# Altium footprint library Gravix-IC.PcbLib: 10 footprints
Each footprint in its own frame and in the unit in brackets; x right, y up, seen from the top. Pads: shape width x height; smd on the part's side, far side on the other; paste and mask are expansions set on the pad; w line width, h text height; cw(c..) or ccw(c..) is an arc to the next point about the centre after c.
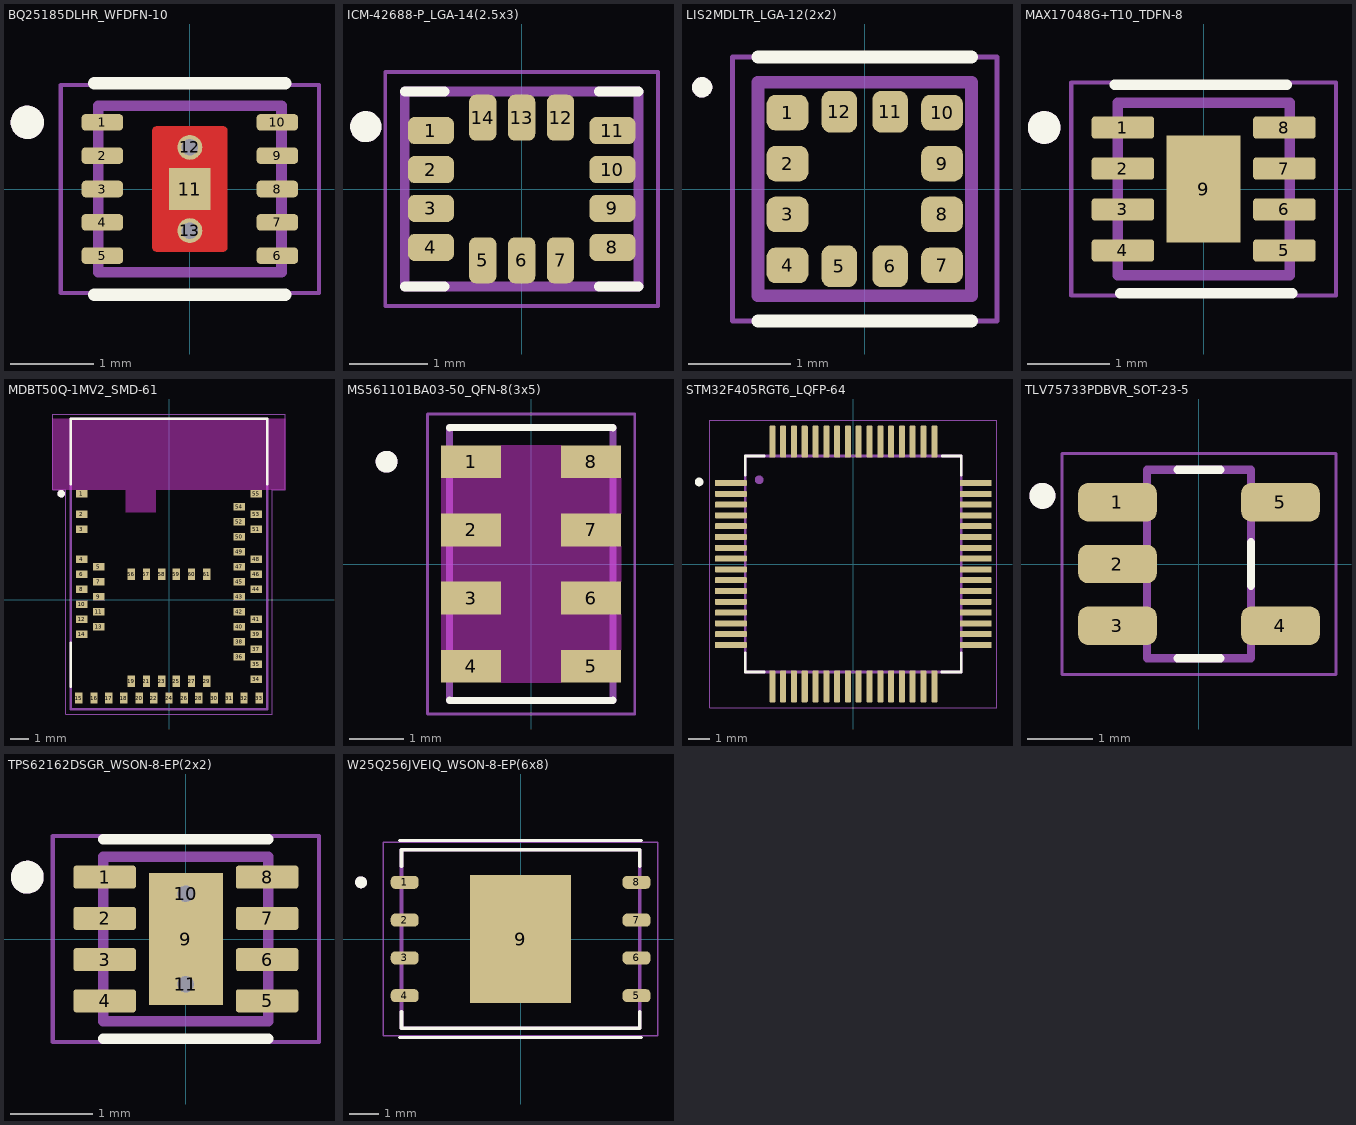
[diagram p0: the footprints below, top view; thin cyan lines are the x and y axes]

## BQ25185DLHR_WFDFN-10 [mm]
pads (13):
  rrect52% 0.5x0.2 smd paste+0 mask+0: 1(-1.05,0.8) 2(-1.05,0.4) 3(-1.05,0) 4(-1.05,-0.4) 5(-1.05,-0.8) 6(1.05,-0.8) 7(1.05,-0.4) 8(1.05,0) 9(1.05,0.4) 10(1.05,0.8)
  rect 0.5x0.5 smd paste-1 mask+0: 11(0,0)
  round 0.3 hole 0.2 mask+0: 12(0,0.5) 13(0,-0.5)
Top Layer:
  region: 0.408,0.749 0.41,0.749 0.413,0.748 0.415,0.748 0.418,0.747 0.42,0.746 0.423,0.745 0.425,0.743 0.427,0.742 0.429,0.74 0.431,0.739 0.433,0.737 0.435,0.735 0.437,0.733 0.439,0.731 0.44,0.729 0.442,0.727 0.443,0.725 0.445,0.723 0.446,0.72 0.447,0.718 0.448,0.715 0.448,0.713 0.449,0.71 0.449,0.708 0.45,0.705 0.45,0.703 0.45,0.7 0.45,-0.7 0.45,-0.703 0.45,-0.705 0.449,-0.708 0.449,-0.71 0.448,-0.713 0.448,-0.715 0.447,-0.718 0.446,-0.72 0.445,-0.723 0.443,-0.725 0.442,-0.727 0.44,-0.729 0.439,-0.731 0.437,-0.733 0.435,-0.735 0.433,-0.737 0.431,-0.739 0.429,-0.74 0.427,-0.742 0.425,-0.743 0.423,-0.745 0.42,-0.746 0.418,-0.747 0.415,-0.748 0.413,-0.748 0.41,-0.749 0.408,-0.749 0.405,-0.75 -0.405,-0.75 -0.408,-0.749 -0.41,-0.749 -0.413,-0.748 -0.415,-0.748 -0.418,-0.747 -0.42,-0.746 -0.423,-0.745 -0.425,-0.743 -0.427,-0.742 -0.429,-0.74 -0.431,-0.739 -0.433,-0.737 -0.435,-0.735 -0.437,-0.733 -0.439,-0.731 -0.44,-0.729 -0.442,-0.727 -0.443,-0.725 -0.445,-0.723 -0.446,-0.72 -0.447,-0.718 -0.448,-0.715 -0.448,-0.713 -0.449,-0.71 -0.449,-0.708 -0.45,-0.705 -0.45,-0.703 -0.45,-0.7 -0.45,0.7 -0.45,0.703 -0.45,0.705 -0.449,0.708 -0.449,0.71 -0.448,0.713 -0.448,0.715 -0.447,0.718 -0.446,0.72 -0.445,0.723 -0.443,0.725 -0.442,0.727 -0.44,0.729 -0.439,0.731 -0.437,0.733 -0.435,0.735 -0.433,0.737 -0.431,0.739 -0.429,0.74 -0.427,0.742 -0.425,0.743 -0.423,0.745 -0.42,0.746 -0.418,0.747 -0.415,0.748 -0.413,0.748 -0.41,0.749 -0.408,0.749 -0.405,0.75 0.405,0.75
Top Overlay:
  circle w0.2: c-1.95,0.8 r0.1
  lines w0.152: -1.143,-1.27 1.143,-1.27 ; -1.143,1.27 1.143,1.27
Top Paste:
  region: 0.383,0.689 0.385,0.689 0.388,0.688 0.39,0.688 0.393,0.687 0.395,0.686 0.398,0.685 0.4,0.683 0.402,0.682 0.404,0.68 0.406,0.679 0.408,0.677 0.41,0.675 0.412,0.673 0.414,0.671 0.415,0.669 0.417,0.667 0.418,0.665 0.42,0.663 0.421,0.66 0.422,0.658 0.423,0.655 0.423,0.653 0.424,0.65 0.424,0.648 0.425,0.645 0.425,0.643 0.425,0.64 0.425,-0.64 0.425,-0.643 0.425,-0.645 0.424,-0.648 0.424,-0.65 0.423,-0.653 0.423,-0.655 0.422,-0.658 0.421,-0.66 0.42,-0.663 0.418,-0.665 0.417,-0.667 0.415,-0.669 0.414,-0.671 0.412,-0.673 0.41,-0.675 0.408,-0.677 0.406,-0.679 0.404,-0.68 0.402,-0.682 0.4,-0.683 0.398,-0.685 0.395,-0.686 0.393,-0.687 0.39,-0.688 0.388,-0.688 0.385,-0.689 0.383,-0.689 0.38,-0.69 -0.38,-0.69 -0.383,-0.689 -0.385,-0.689 -0.388,-0.688 -0.39,-0.688 -0.393,-0.687 -0.395,-0.686 -0.398,-0.685 -0.4,-0.683 -0.402,-0.682 -0.404,-0.68 -0.406,-0.679 -0.408,-0.677 -0.41,-0.675 -0.412,-0.673 -0.414,-0.671 -0.415,-0.669 -0.417,-0.667 -0.418,-0.665 -0.42,-0.663 -0.421,-0.66 -0.422,-0.658 -0.423,-0.655 -0.423,-0.653 -0.424,-0.65 -0.424,-0.648 -0.425,-0.645 -0.425,-0.643 -0.425,-0.64 -0.425,0.64 -0.425,0.643 -0.425,0.645 -0.424,0.648 -0.424,0.65 -0.423,0.653 -0.423,0.655 -0.422,0.658 -0.421,0.66 -0.42,0.663 -0.418,0.665 -0.417,0.667 -0.415,0.669 -0.414,0.671 -0.412,0.673 -0.41,0.675 -0.408,0.677 -0.406,0.679 -0.404,0.68 -0.402,0.682 -0.4,0.683 -0.398,0.685 -0.395,0.686 -0.393,0.687 -0.39,0.688 -0.388,0.688 -0.385,0.689 -0.383,0.689 -0.38,0.69 0.38,0.69
Top Solder:
  drawing of 11 lines, arcs and shapes, not listed
Mechanical 13:
  circle w0.2: c-1.95,0.8 r0.1
  lines w0.127: -1.1,-1 -1.1,1 1.1,1 1.1,-1 -1.1,-1
Mechanical 15:
  lines w0.05: -1.55,-1.25 1.55,-1.25 1.55,1.25 -1.55,1.25 -1.55,-1.25
3D body "step_temp.STEP": height 0.8, standoff 0, extent -1.1,-1 1.1,1

## ICM-42688-P_LGA-14(2.5x3) [mm]
pads (14):
  rrect50% 0.59x0.35 smd mask+0: 1(-1.165,0.75) 2(-1.165,0.25) 3(-1.165,-0.25) 4(-1.165,-0.75) 8(1.165,-0.75) 9(1.165,-0.25) 10(1.165,0.25) 11(1.165,0.75)
  rrect50% 0.35x0.59 smd mask+0: 5(-0.5,-0.915) 6(0,-0.915) 7(0.5,-0.915) 12(0.5,0.915) 13(0,0.915) 14(-0.5,0.915)
Top Overlay:
  circle w0.2: c-2,0.8 r0.1
  lines w0.127: -1.5,-1.25 -0.99,-1.25 ; -1.5,1.25 -0.99,1.25 ; 0.99,-1.25 1.5,-1.25 ; 0.99,1.25 1.5,1.25
Top Solder:
  drawing of 14 lines, arcs and shapes, not listed
Mechanical 13:
  circle w0.2: c-2,0.8 r0.1
  lines w0.127: -1.5,-1.25 1.5,-1.25 1.5,1.25 -1.5,1.25 -1.5,-1.25
Mechanical 15:
  lines w0.05: -1.75,-1.5 1.75,-1.5 1.75,1.5 -1.75,1.5 -1.75,-1.5
3D body "ICM-42688-P--3DModel-STEP-1.STEP": height 0.97, standoff 0, extent -1.524,-1.23 1.476,1.27

## LIS2MDLTR_LGA-12(2x2) [mm]
pads (12):
  rrect50% 0.41x0.35 smd: 1(-0.76,0.75) 2(-0.76,0.25) 3(-0.76,-0.25) 4(-0.76,-0.75) 7(0.76,-0.75) 8(0.76,-0.25) 9(0.76,0.25) 10(0.76,0.75)
  rrect50% 0.35x0.41 smd: 5(-0.25,-0.76) 6(0.25,-0.76) 11(0.25,0.76) 12(-0.25,0.76)
Top Overlay:
  circle w0.1: c-1.6,1 r0.05
  lines w0.127: -1.05,-1.3 1.05,-1.3 ; -1.05,1.3 1.05,1.3
Mechanical 13:
  circle w0.1: c-1.6,1 r0.05
  lines w0.127: -1.05,-1.05 -1.05,1.05 1.05,1.05 1.05,-1.05 -1.05,-1.05
Mechanical 15:
  lines w0.05: -1.3,-1.3 1.3,-1.3 1.3,1.3 -1.3,1.3 -1.3,-1.3
3D body "LIS2MDLTR.STEP": height 0.7, standoff 0, extent -1,-1 1,1

## MAX17048G+T10_TDFN-8 [mm]
pads (9):
  rrect25% 0.76x0.27 smd: 1(-0.985,0.75) 2(-0.985,0.25) 3(-0.985,-0.25) 4(-0.985,-0.75) 5(0.985,-0.75) 6(0.985,-0.25) 7(0.985,0.25) 8(0.985,0.75)
  rect 0.9x1.3 smd paste-2: 9(0,0)
Top Overlay:
  circle w0.2: c-1.945,0.75 r0.1
  lines w0.127: -1.084,1.27 1.016,1.27 ; -1.016,-1.27 1.084,-1.27
Top Paste:
  region: 0.28,-0.41 -0.28,-0.41 -0.28,0.41 0.28,0.41
Mechanical 13:
  circle w0.2: c-1.945,0.75 r0.1
  lines w0.127: -1.05,-1.05 -1.05,1.05 1.05,1.05 1.05,-1.05 -1.05,-1.05
Mechanical 15:
  lines w0.05: -1.615,-1.3 -1.615,1.3 1.615,1.3 1.615,-1.3 -1.615,-1.3
3D body "step_temp.STEP": height 0.8, standoff 0, extent -1,-1 1,1

## MDBT50Q-1MV2_SMD-61 [mm]
pads (61):
  rect 0.6x0.4 smd: 1(-4.65,5.655) 2(-4.65,4.555) 3(-4.65,3.755) 4(-4.65,2.155) 5(-3.75,1.755) 6(-4.65,1.355) 7(-3.75,0.955) 8(-4.65,0.555) 9(-3.75,0.155) 10(-4.65,-0.245) 11(-3.75,-0.645) 12(-4.65,-1.045) 13(-3.75,-1.445) 14(-4.65,-1.845) 34(4.65,-4.245) 35(4.65,-3.445) 36(3.75,-3.045) 37(4.65,-2.645) 38(3.75,-2.245) 39(4.65,-1.845) 40(3.75,-1.445) 41(4.65,-1.045) 42(3.75,-0.645) 43(3.75,0.155) 44(4.65,0.555) 45(3.75,0.955) 46(4.65,1.355) 47(3.75,1.755) 48(4.65,2.155) 49(3.75,2.555) 50(3.75,3.355) 51(4.65,3.755) 52(3.75,4.155) 53(4.65,4.555) 54(3.75,4.955) 55(4.65,5.655)
  rect 0.4x0.6 smd: 15(-4.8,-5.245) 16(-4,-5.245) 17(-3.2,-5.245) 18(-2.4,-5.245) 19(-2,-4.345) 20(-1.6,-5.245) 21(-1.2,-4.345) 22(-0.8,-5.245) 23(-0.4,-4.345) 24(0,-5.245) 25(0.4,-4.345) 26(0.8,-5.245) 27(1.2,-4.345) 28(1.6,-5.245) 29(2,-4.345) 30(2.4,-5.245) 31(3.2,-5.245) 32(4,-5.245) 33(4.8,-5.245) 56(-2,1.355) 57(-1.2,1.355) 58(-0.4,1.355) 59(0.4,1.355) 60(1.2,1.355) 61(2,1.355)
Top Overlay:
  circle w0.2: c-5.75,5.655 r0.1
  lines w0.127: -5.25,-4.645 -5.25,-2.295 ; -5.25,6.155 -5.25,9.655 5.25,9.655 5.25,6.155
Keep-Out Layer:
  region: -0.7,4.655 -2.3,4.655 -2.3,5.855 -0.7,5.855
  region: 6.2,5.855 -6.2,5.855 -6.2,9.655 6.2,9.655
  region: -0.7,4.655 -2.3,4.655 -2.3,5.855 -0.7,5.855
  region: 6.2,5.855 -6.2,5.855 -6.2,9.655 6.2,9.655
Mechanical 13:
  circle w0.2: c-5.75,5.655 r0.1
  lines w0.127: -5.25,-5.845 5.25,-5.845 5.25,9.655 -5.25,9.655 -5.25,-5.845
Mechanical 15:
  lines w0.05: -6.2,5.855 -5.5,5.855 -5.5,-6.095 5.5,-6.095 5.5,5.855 6.2,5.855 6.2,9.905 -6.2,9.905 -6.2,5.855
3D body "step_temp.STEP": height 2.07, standoff 0.01, extent -5.25,-5.845 5.25,9.655

## MS561101BA03-50_QFN-8(3x5) [mm]
pads (8):
  rect 1.1x0.6 smd: 1(-1.1,1.875) 2(-1.1,0.625) 3(-1.1,-0.625) 4(-1.1,-1.875) 5(1.1,-1.875) 6(1.1,-0.625) 7(1.1,0.625) 8(1.1,1.875)
Top Overlay:
  circle w0.2: c-2.65,1.875 r0.1
  lines w0.127: -1.5,-2.495 -1.5,-2.5 1.5,-2.5 1.5,-2.495 ; -1.5,2.495 -1.5,2.5 1.5,2.5 1.5,2.495
Keep-Out Layer:
  region: 0.55,1.575 1.65,1.575 1.65,0.925 0.55,0.925 0.55,0.325 1.65,0.325 1.65,-0.325 0.55,-0.325 0.55,-0.925 1.65,-0.925 1.65,-1.575 0.55,-1.575 0.55,-2.175 -0.55,-2.175 -0.55,-1.575 -1.65,-1.575 -1.65,-0.925 -0.55,-0.925 -0.55,-0.325 -1.65,-0.325 -1.65,0.325 -0.55,0.325 -0.55,0.925 -1.65,0.925 -1.65,1.575 -0.55,1.575 -0.55,2.175 0.55,2.175
Mechanical 13:
  circle w0.2: c-2.65,1.875 r0.1
  lines w0.127: -1.5,-2.5 1.5,-2.5 1.5,2.5 -1.5,2.5 -1.5,-2.5
Mechanical 15:
  lines w0.05: -1.9,-2.75 1.9,-2.75 1.9,2.75 -1.9,2.75 -1.9,-2.75
3D body "step_temp.STEP": height 1, standoff 0, extent -1.5,-2.5 1.5,2.5

## STM32F405RGT6_LQFP-64 [mm]
pads (64):
  rrect25% 1.47x0.28 smd: 1(-5.67,3.75) 2(-5.67,3.25) 3(-5.67,2.75) 4(-5.67,2.25) 5(-5.67,1.75) 6(-5.67,1.25) 7(-5.67,0.75) 8(-5.67,0.25) 9(-5.67,-0.25) 10(-5.67,-0.75) 11(-5.67,-1.25) 12(-5.67,-1.75) 13(-5.67,-2.25) 14(-5.67,-2.75) 15(-5.67,-3.25) 16(-5.67,-3.75) 33(5.67,-3.75) 34(5.67,-3.25) 35(5.67,-2.75) 36(5.67,-2.25) 37(5.67,-1.75) 38(5.67,-1.25) 39(5.67,-0.75) 40(5.67,-0.25) 41(5.67,0.25) 42(5.67,0.75) 43(5.67,1.25) 44(5.67,1.75) 45(5.67,2.25) 46(5.67,2.75) 47(5.67,3.25) 48(5.67,3.75)
  rrect25% 0.28x1.47 smd: 17(-3.75,-5.67) 18(-3.25,-5.67) 19(-2.75,-5.67) 20(-2.25,-5.67) 21(-1.75,-5.67) 22(-1.25,-5.67) 23(-0.75,-5.67) 24(-0.25,-5.67) 25(0.25,-5.67) 26(0.75,-5.67) 27(1.25,-5.67) 28(1.75,-5.67) 29(2.25,-5.67) 30(2.75,-5.67) 31(3.25,-5.67) 32(3.75,-5.67) 49(3.75,5.67) 50(3.25,5.67) 51(2.75,5.67) 52(2.25,5.67) 53(1.75,5.67) 54(1.25,5.67) 55(0.75,5.67) 56(0.25,5.67) 57(-0.25,5.67) 58(-0.75,5.67) 59(-1.25,5.67) 60(-1.75,5.67) 61(-2.25,5.67) 62(-2.75,5.67) 63(-3.25,5.67) 64(-3.75,5.67)
Top Overlay:
  circle w0.2: c-7.14,3.8 r0.1
  lines w0.127: -5,-4.125 -5,-5 -4.125,-5 ; -5,4.125 -5,5 -4.125,5 ; 4.092,-5 5,-5 5,-4.125 ; 4.125,5 5,5 5,4.125
Mechanical 13:
  circle w0.2: c-4.36,3.9 r0.1
  lines w0.127: -5,-5 5,-5 5,5 -5,5 -5,-5
Mechanical 15:
  lines w0.05: -6.655,-6.655 6.655,-6.655 6.655,6.655 -6.655,6.655 -6.655,-6.655
3D body "step_temp.STEP": height 1.6, standoff 0, extent -6,-6 6,6

## TLV75733PDBVR_SOT-23-5 [mm]
pads (5):
  rrect50% 1.21x0.59 smd: 1(-1.255,0.95) 2(-1.255,0) 3(-1.255,-0.95) 4(1.255,-0.95) 5(1.255,0.95)
Top Overlay:
  circle w0.2: c-2.41,1.05 r0.1
  lines w0.127: -0.33,-1.45 0.33,-1.45 ; -0.33,1.45 0.33,1.45 ; 0.8,-0.335 0.8,0.335
Mechanical 13:
  circle w0.2: c-2.41,1.05 r0.1
  lines w0.127: -0.8,-1.45 -0.8,1.45 0.8,1.45 0.8,-1.45 -0.8,-1.45
Mechanical 15:
  lines w0.05: -2.11,-1.7 2.11,-1.7 2.11,1.7 -2.11,1.7 -2.11,-1.7
3D body "step_temp.STEP": height 1.45, standoff 0, extent -1.4,-1.45 1.4,1.45

## TPS62162DSGR_WSON-8-EP(2x2) [mm]
pads (11):
  rrect25% 0.76x0.28 smd: 1(-0.985,0.75) 2(-0.985,0.25) 3(-0.985,-0.25) 4(-0.985,-0.75) 5(0.985,-0.75) 6(0.985,-0.25) 7(0.985,0.25) 8(0.985,0.75)
  rect 0.9x1.6 smd paste-2: 9(0,0)
  round 0.4 hole 0.2 mask+0: 10(0,0.55) 11(0,-0.55)
Top Overlay:
  circle w0.2: c-1.925,0.75 r0.1
  lines w0.127: -1,-1.21 1,-1.21 ; -1,1.21 1,1.21
Top Paste:
  region: 0.284,-0.506 -0.284,-0.506 -0.284,0.506 0.284,0.506
Mechanical 13:
  circle w0.2: c-1.925,0.75 r0.1
  lines w0.127: -1,-1 -1,1 1,1 1,-1 -1,-1
Mechanical 15:
  lines w0.05: -1.615,-1.25 -1.615,1.25 1.615,1.25 1.615,-1.25 -1.615,-1.25
3D body "step_temp.STEP": height 0.75, standoff -0.05, extent -1,-1 1,1

## W25Q256JVEIQ_WSON-8-EP(6x8) [mm]
pads (9):
  rrect70% 0.94x0.44 smd: 1(-3.895,1.905) 2(-3.895,0.635) 3(-3.895,-0.635) 4(-3.895,-1.905) 5(3.895,-1.905) 6(3.895,-0.635) 7(3.895,0.635) 8(3.895,1.905)
  rect 3.4x4.3 smd paste-3: 9(0,0)
Top Overlay:
  circle w0.2: c-5.365,1.905 r0.1
  lines w0.1: -4.064,-3.302 4.064,-3.302 ; -4.064,3.302 4.064,3.302
  lines w0.127: -4,-2.445 -4,-3 4,-3 4,-2.445 ; -4,2.445 -4,3 4,3 4,2.445
Top Paste:
  region: 1.075,-1.36 -1.075,-1.36 -1.075,1.36 1.075,1.36
Mechanical 13:
  circle w0.2: c-5.365,1.905 r0.1
  lines w0.127: -4,-3 -4,3 4,3 4,-3 -4,-3
Mechanical 15:
  lines w0.05: -4.615,-3.25 4.615,-3.25 4.615,3.25 -4.615,3.25 -4.615,-3.25
3D body "step_temp.STEP": height 0.8, standoff 0, extent -4,-3 4,3